# EAGLE library part TM4C1294NCPDT (library ti-tiva)
ARM MICROCONTROLLER Tiva C Series, ARM Cortex M4F
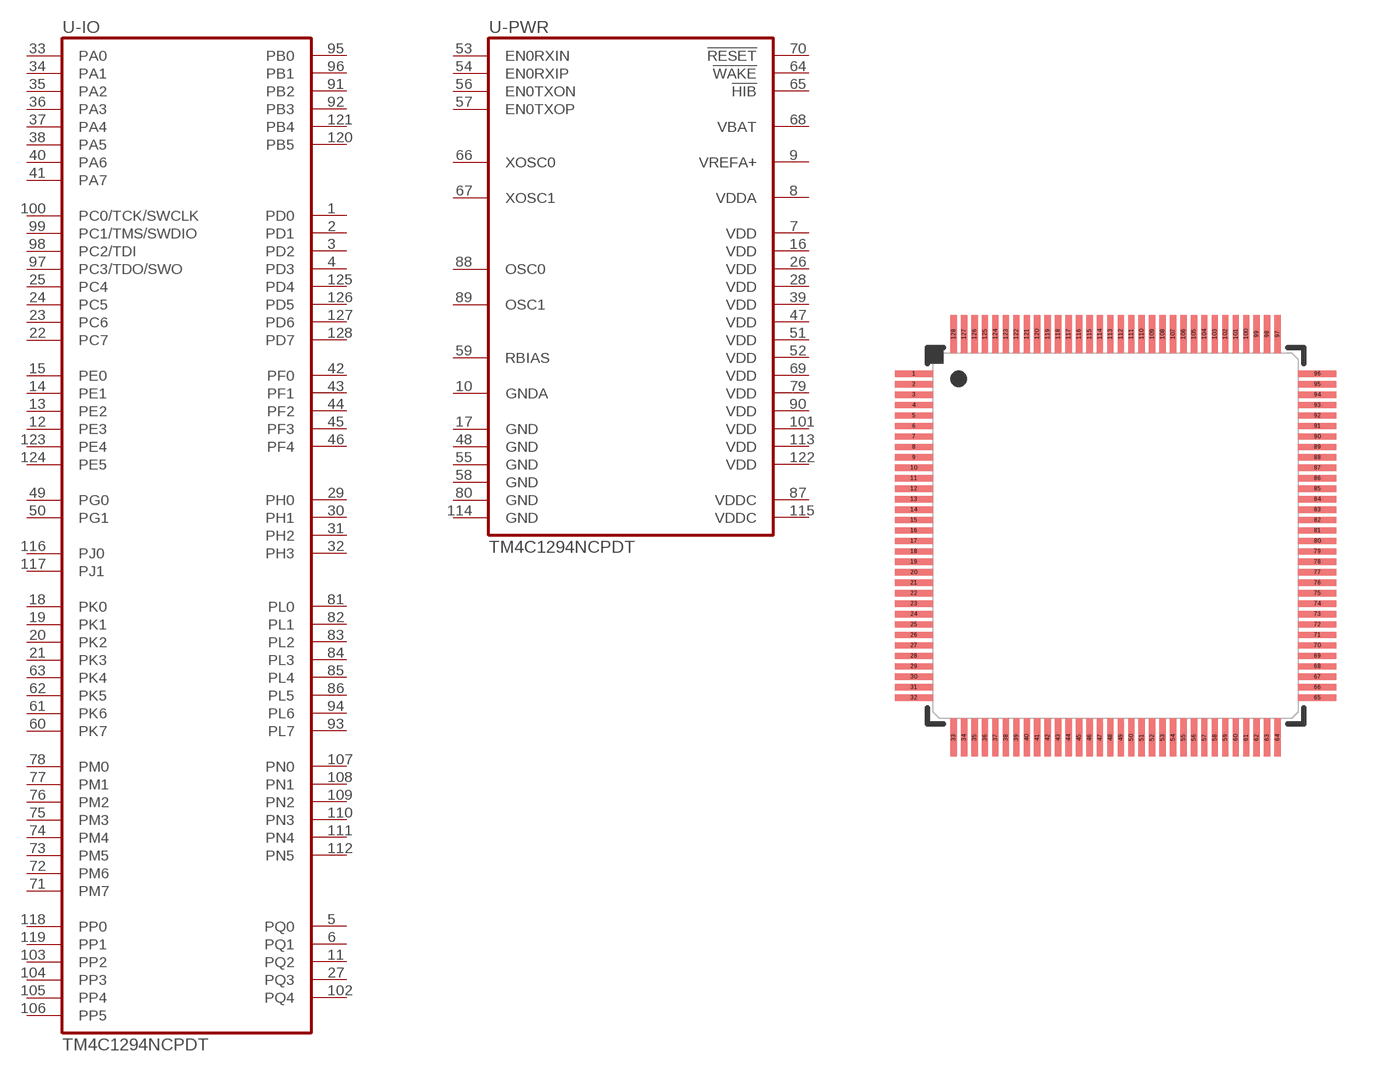
[diagram p2: symbol with the pads of TQFP128; footprint TQFP128]

Designator prefix U; gates -IO=TM4C1239ENCPD -PWR=TM4C129ENCPD_PWR

## TM4C1294NCPDT  [TQFP128]
1  -IO:PD0
2  -IO:PD1
3  -IO:PD2
4  -IO:PD3
5  -IO:PQ0
6  -IO:PQ1
7  -PWR:VDD  pwr
8  -PWR:VDDA  in
9  -PWR:VREFA+  in
10  -PWR:GNDA  pwr
11  -IO:PQ2
12  -IO:PE3
13  -IO:PE2
14  -IO:PE1
15  -IO:PE0
16  -PWR:VDD  pwr
17  -PWR:GND  pwr
18  -IO:PK0
19  -IO:PK1
20  -IO:PK2
21  -IO:PK3
22  -IO:PC7
23  -IO:PC6
24  -IO:PC5
25  -IO:PC4
26  -PWR:VDD  pwr
27  -IO:PQ3
28  -PWR:VDD  pwr
29  -IO:PH0
30  -IO:PH1
31  -IO:PH2
32  -IO:PH3
33  -IO:PA0
34  -IO:PA1
35  -IO:PA2
36  -IO:PA3
37  -IO:PA4
38  -IO:PA5
39  -PWR:VDD  pwr
40  -IO:PA6
41  -IO:PA7
42  -IO:PF0
43  -IO:PF1
44  -IO:PF2
45  -IO:PF3
46  -IO:PF4
47  -PWR:VDD  pwr
48  -PWR:GND  pwr
49  -IO:PG0
50  -IO:PG1
51  -PWR:VDD  pwr
52  -PWR:VDD  pwr
53  -PWR:EN0RXIN
54  -PWR:EN0RXIP
55  -PWR:GND  pwr
56  -PWR:EN0TXON
57  -PWR:EN0TXOP
58  -PWR:GND  pwr
59  -PWR:RBIAS  in
60  -IO:PK7
61  -IO:PK6
62  -IO:PK5
63  -IO:PK4
64  -PWR:!WAKE  in
65  -PWR:!HIB  out
66  -PWR:XOSC0
67  -PWR:XOSC1
68  -PWR:VBAT  in
69  -PWR:VDD
70  -PWR:!RESET  in
71  -IO:PM7
72  -IO:PM6
73  -IO:PM5
74  -IO:PM4
75  -IO:PM3
76  -IO:PM2
77  -IO:PM1
78  -IO:PM0
79  -PWR:VDD  pwr
80  -PWR:GND  pwr
81  -IO:PL0
82  -IO:PL1
83  -IO:PL2
84  -IO:PL3
85  -IO:PL4
86  -IO:PL5
87  -PWR:VDDC
88  -PWR:OSC0
89  -PWR:OSC1
90  -PWR:VDD  pwr
91  -IO:PB2
92  -IO:PB3
93  -IO:PL7
94  -IO:PL6
95  -IO:PB0
96  -IO:PB1
97  -IO:PC3/TDO/SWO
98  -IO:PC2/TDI
99  -IO:PC1/TMS/SWDIO
100  -IO:PC0/TCK/SWCLK
101  -PWR:VDD  pwr
102  -IO:PQ4
103  -IO:PP2
104  -IO:PP3
105  -IO:PP4
106  -IO:PP5
107  -IO:PN0
108  -IO:PN1
109  -IO:PN2
110  -IO:PN3
111  -IO:PN4
112  -IO:PN5
113  -PWR:VDD  pwr
114  -PWR:GND  pwr
115  -PWR:VDDC
116  -IO:PJ0
117  -IO:PJ1
118  -IO:PP0
119  -IO:PP1
120  -IO:PB5
121  -IO:PB4
122  -PWR:VDD  pwr
123  -IO:PE4
124  -IO:PE5
125  -IO:PD4
126  -IO:PD5
127  -IO:PD6
128  -IO:PD7

## Footprint TQFP128 (pad centres in mm)
TQFP-128 body 14 x 14 mm, pitch 0.4 mm PDT (S-PQFP-G128)
smd 1.45 x 0.24: 1 -7.725,6.2; 2 -7.725,5.8; 3 -7.725,5.4; 4 -7.725,5; 5 -7.725,4.6; 6 -7.725,4.2; 7 -7.725,3.8; 8 -7.725,3.4; 9 -7.725,3; 10 -7.725,2.6; 11 -7.725,2.2; 12 -7.725,1.8; 13 -7.725,1.4; 14 -7.725,1; 15 -7.725,0.6; 16 -7.725,0.2; 17 -7.725,-0.2; 18 -7.725,-0.6; 19 -7.725,-1; 20 -7.725,-1.4; 21 -7.725,-1.8; 22 -7.725,-2.2; 23 -7.725,-2.6; 24 -7.725,-3; 25 -7.725,-3.4; 26 -7.725,-3.8; 27 -7.725,-4.2; 28 -7.725,-4.6; 29 -7.725,-5; 30 -7.725,-5.4; 31 -7.725,-5.8; 32 -7.725,-6.2; 65 7.725,-6.2; 66 7.725,-5.8; 67 7.725,-5.4; 68 7.725,-5; 69 7.725,-4.6; 70 7.725,-4.2; 71 7.725,-3.8; 72 7.725,-3.4; 73 7.725,-3; 74 7.725,-2.6; 75 7.725,-2.2; 76 7.725,-1.8; 77 7.725,-1.4; 78 7.725,-1; 79 7.725,-0.6; 80 7.725,-0.2; 81 7.725,0.2; 82 7.725,0.6; 83 7.725,1; 84 7.725,1.4; 85 7.725,1.8; 86 7.725,2.2; 87 7.725,2.6; 88 7.725,3; 89 7.725,3.4; 90 7.725,3.8; 91 7.725,4.2; 92 7.725,4.6; 93 7.725,5; 94 7.725,5.4; 95 7.725,5.8; 96 7.725,6.2
smd 0.24 x 1.45: 33 -6.2,-7.725; 34 -5.8,-7.725; 35 -5.4,-7.725; 36 -5,-7.725; 37 -4.6,-7.725; 38 -4.2,-7.725; 39 -3.8,-7.725; 40 -3.4,-7.725; 41 -3,-7.725; 42 -2.6,-7.725; 43 -2.2,-7.725; 44 -1.8,-7.725; 45 -1.4,-7.725; 46 -1,-7.725; 47 -0.6,-7.725; 48 -0.2,-7.725; 49 0.2,-7.725; 50 0.6,-7.725; 51 1,-7.725; 52 1.4,-7.725; 53 1.8,-7.725; 54 2.2,-7.725; 55 2.6,-7.725; 56 3,-7.725; 57 3.4,-7.725; 58 3.8,-7.725; 59 4.2,-7.725; 60 4.6,-7.725; 61 5,-7.725; 62 5.4,-7.725; 63 5.8,-7.725; 64 6.2,-7.725; 97 6.2,7.725; 98 5.8,7.725; 99 5.4,7.725; 100 5,7.725; 101 4.6,7.725; 102 4.2,7.725; 103 3.8,7.725; 104 3.4,7.725; 105 3,7.725; 106 2.6,7.725; 107 2.2,7.725; 108 1.8,7.725; 109 1.4,7.725; 110 1,7.725; 111 0.6,7.725; 112 0.2,7.725; 113 -0.2,7.725; 114 -0.6,7.725; 115 -1,7.725; 116 -1.4,7.725; 117 -1.8,7.725; 118 -2.2,7.725; 119 -2.6,7.725; 120 -3,7.725; 121 -3.4,7.725; 122 -3.8,7.725; 123 -4.2,7.725; 124 -4.6,7.725; 125 -5,7.725; 126 -5.4,7.725; 127 -5.8,7.725; 128 -6.2,7.725